# Altium footprint library Fuses.PcbLib: 5 footprints
Each footprint in its own frame and in the unit in brackets; x right, y up, seen from the top. Pads: shape width x height; smd on the part's side, far side on the other; paste and mask are expansions set on the pad; w line width, h text height; cw(c..) or ccw(c..) is an arc to the next point about the centre after c.
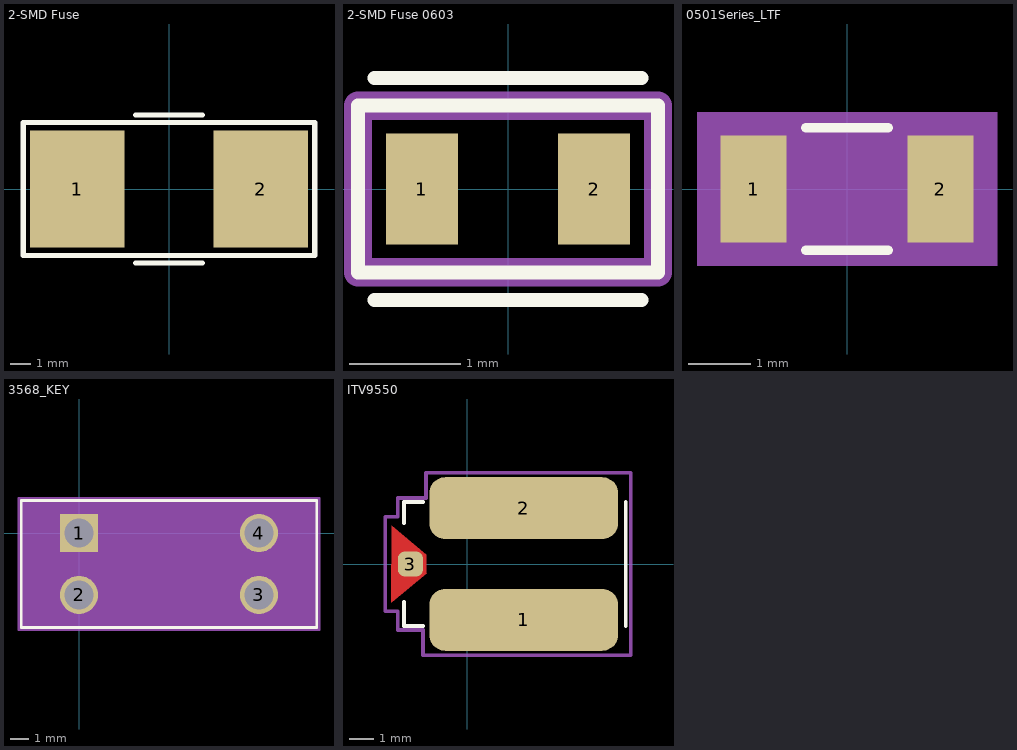
[diagram p0: the footprints below, top view; thin cyan lines are the x and y axes]

## 2-SMD Fuse [mm]
pads (2):
  rect 4.7x5.8 smd paste+0 mask+0: 1(-4.55,0) 2(4.55,0)
Top Overlay:
  lines w0.254: -1.651,-3.683 1.651,-3.683 ; -1.651,3.683 1.651,3.683 ; -7.239,-3.302 7.239,-3.302 7.239,3.302 -7.239,3.302 -7.239,-3.302

## 2-SMD Fuse 0603 [mm] "0603 Fuse Footprint"
pads (2):
  rect 0.65x1 smd paste+0 mask+0: 1(-0.775,0) 2(0.775,0)
Top Overlay:
  lines w0.127: -1.2,-1 1.2,-1 ; -1.2,1 -0.6,1 0.6,1 1.2,1 ; -1.35,-0.75 1.35,-0.75 1.35,0.75 -1.35,0.75 -1.35,-0.75
Boundary:
  lines w0.254: -1.35,-0.75 1.35,-0.75 1.35,0.75 -1.35,0.75 -1.35,-0.75
3D body "User Library-USF_0603_Surface_Mount_Fuse.step": height 0.64, standoff 0.01, extent -0.8,-0.4 0.8,0.4

## 0501Series_LTF [mil]
pads (2):
  rect 42x68 smd paste+0 mask+0: 1(-59.5,0) 2(59.5,0)
Top Overlay:
  lines w6: -26.39,-39 26.39,-39 ; -26.39,39 26.39,39
Mechanical 5:
  region: 95.5,-49 -95.5,-49 -95.5,49 95.5,49
Mechanical 13:
  lines w1: -66.5,-34 -66.5,34 ; -66.5,-34 -38.5,-34 -38.5,34 -66.5,34 ; -66.5,-34 66.5,-34 ; -66.5,-34 -66.5,34 ; -66.5,34 66.5,34 ; 66.5,-34 38.5,-34 38.5,34 66.5,34 ; 66.5,-34 66.5,34 ; 66.5,-34 66.5,34
Mechanical 15:
  region: 90.5,-44 -90.5,-44 -90.5,44 90.5,44
  lines w6: -90.5,-44 -90.5,44 90.5,44 90.5,-44 -90.5,-44
3D body "0501Series_LTF.step": height 22.99, standoff 0, extent -66.5,-34.02 66.5,34.02

## 3568_KEY [mil]
pads (4):
  rect 83x83 / inner round 60 / far side rect 83x83 hole 63 paste-41.5 mask+0: 1(0,0)
  round 83 / inner round 60 / far side round 83 hole 63 paste-41.5 mask+0: 2(0,-134) 3(390,-134) 4(390,0)
Top Overlay:
  lines w6: -125,-204.5 515,-204.5 515,70.5 -125,70.5 -125,-204.5
Mechanical 13:
  lines w1: -120,-199.5 510,-199.5 510,65.5 -120,65.5 -120,-199.5
Mechanical 15:
  region: 520,-209.5 -130,-209.5 -130,75.5 520,75.5
  lines w6: -130,-209.5 -130,75.5 520,75.5 520,-209.5 -130,-209.5

## ITV9550 [mm] "Littlefuse ITV9550"
pads (3):
  rrect50% 7.6x2.5 smd: 1(2.285,-2.25) 2(2.285,2.25)
  rrect50% 1x1 smd: 3(-2.285,0)
Top Layer:
  region: -1.641,0.369 -3.042,0.375 -3.035,1.55
  region: -1.635,-0.375 -1.641,-0.381 -3.049,-0.381 -3.049,-1.536 -3.035,-1.55
  region: -3.042,0.381 -3.049,-0.381 -1.641,-0.381 -1.641,0.369 -2.339,0.375
Top Overlay:
  lines w0.152: -2.54,-1.524 -2.54,-2.5 -1.778,-2.5 ; -2.54,1.651 -2.54,2.5 -1.778,2.5 ; 6.401,-2.5 6.401,2.462 6.401,2.5
Boundary:
  lines w0.152: -3.302,1.778 -3.302,1.651 ; -3.302,1.651 -3.302,-1.651 -3.302,-1.905 -2.794,-1.905 -2.794,-2.667 -1.778,-2.667 -1.778,-3.683 -0.508,-3.683 6.35,-3.683 6.604,-3.683 6.604,-1.524 6.604,3.683 4.699,3.683 -1.651,3.683 -1.651,2.667 -2.413,2.667 -2.794,2.667 -2.794,1.905 -3.302,1.905 -3.302,1.651